# Altium schematic symbol library DIODES.SchLib: 36 symbols
Pins are listed as number, name and electrical type; pins without a type are passive.

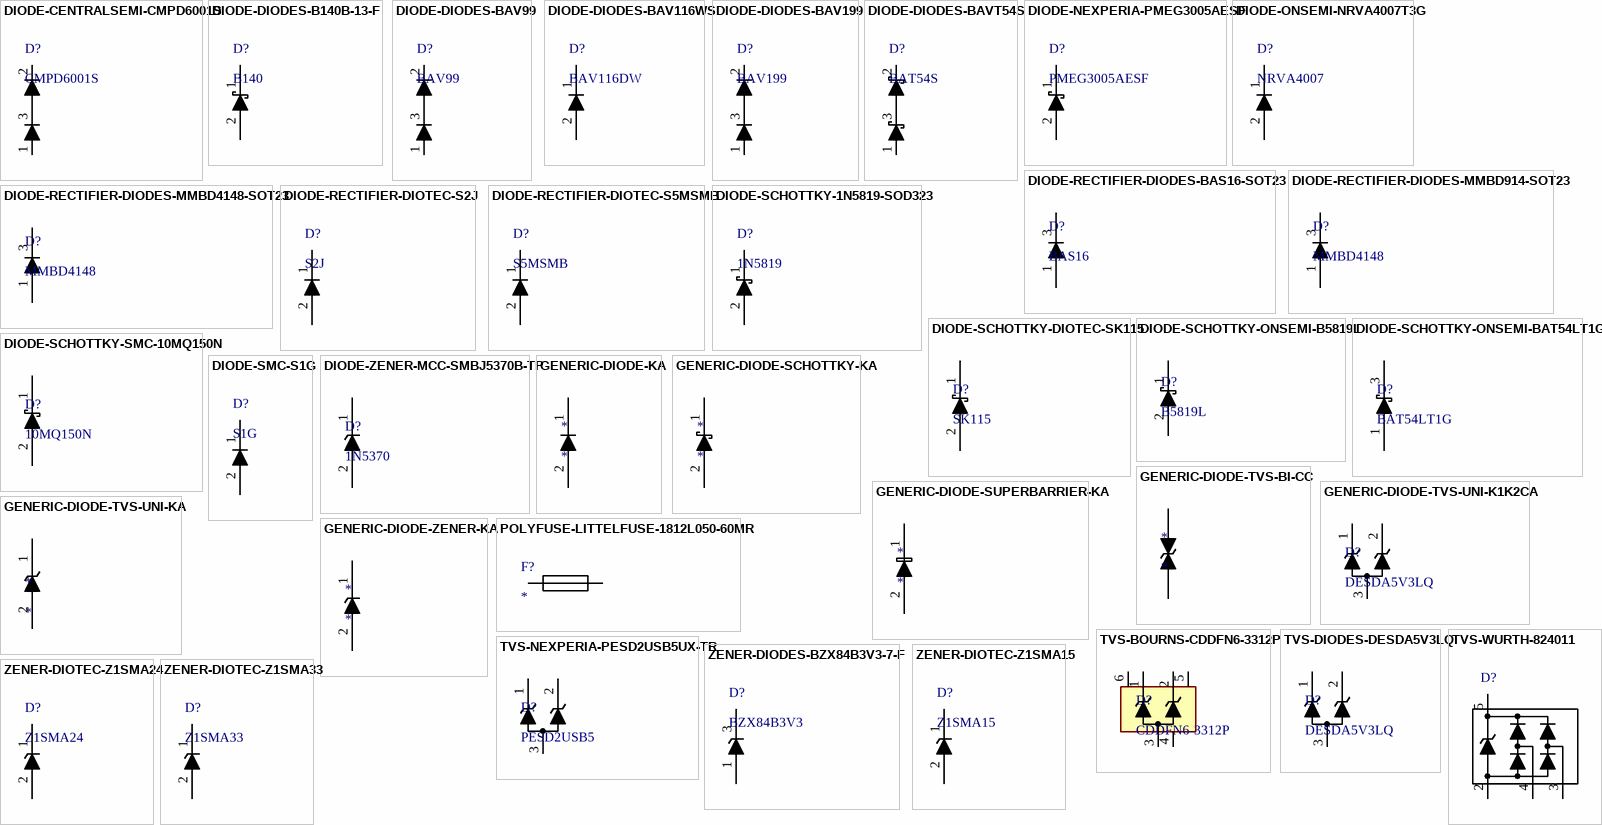
[diagram p0: symbols DIODE-CENTRALSEMI-CMPD6001S to ZENER-DIOTEC-Z1SMA33]

## DIODE-CENTRALSEMI-CMPD6001S
designator D?, comment CMPD6001S
DIODE,75V,250mA,SOT23,500pA ULTRA LOW LEAKAGE; Manufacturer 1: CENTRAL SEMICONDUCTOR; DIGIKEY: 1514-CMPD6001STRPBFREECT-ND; Manufacturer Part Number 1: CMPD6001S
footprint SOT23 (SOT23 PACKAGE, 3 PIN)
pins: 1 K, 2 A, 3 A
1 alternate drawing of the same symbol

## DIODE-DIODES-B140B-13-F
designator D?, comment B140
pins: 1 K, 2 A

## DIODE-DIODES-BAV99
designator D?, comment BAV99
DIODE,75V,215mA,SOT23,LOW LEAKAGE; LCSC: C2500
footprint SOT23 (SOT23 PACKAGE, 3 PIN)
pins: 1 K, 2 A, 3 A
1 alternate drawing of the same symbol

## DIODE-DIODES-BAV116WS
designator D?, comment BAV116DW
DIODE,75V,215mA,SOD323,LOW LEAKAGE; LCSC: C459842; Supplier 1: Arrow Electronics; Supplier Part Number 1: BAV116WS-7
footprint SOD323 (SOD323 FIGURE)
pins: 1 K, 2 A

## DIODE-DIODES-BAV199
designator D?, comment BAV199
DIODE,75V,215mA,SOT23,LOW LEAKAGE; Supplier 1: Arrow Electronics; Supplier Part Number 1: BAV116WS-7
footprint SOD323 (SOD323 FIGURE)
pins: 1 K, 2 A, 3 A

## DIODE-DIODES-BAVT54S
designator D?, comment BAT54S
DIODE,75V,215mA,SOT23,LOW LEAKAGE
footprint SOD323 (SOD323 FIGURE)
pins: 1 K, 2 A, 3 A

## DIODE-NEXPERIA-PMEG3005AESF
designator D?, comment PMEG3005AESF
LCSC: C552848
pins: 1 K, 2 A

## DIODE-ONSEMI-NRVA4007T3G
designator D?, comment NRVA4007
DIODE,RECTIFIER,1000V,1A,ONSEMI,NRVA4007,SMA; Manufacturer Part Number 1: NRVA4007T3G; DIGIKEY: NRVA4007T3GOSCT-ND; Manufacturer 1: ONSEMI
footprint DO214AC (DO214AC, SMA)
pins: 1 K, 2 A

## DIODE-RECTIFIER-DIODES-BAS16-SOT23
designator D?, comment BAS16
DIODE,RECTIFIER,75V,0.3A,BAS16,SOT23; Manufacturer 1: ONSEMI; Manufacturer Part Number 1: BAS16LT1G; DIGIKEY: BAS16LT1GOSCT-ND
footprint SOT23 (SOT23 PACKAGE, 3 PIN)
pins: 1 A, 3 K

## DIODE-RECTIFIER-DIODES-MMBD914-SOT23
designator D?, comment MMBD4148
DIODE,RECTIFIER,75V,0.3A,MMB914,SOT23; Manufacturer 1: DIODES; Manufacturer Part Number 1: MMBD914
pins: 1 A, 3 K

## DIODE-RECTIFIER-DIODES-MMBD4148-SOT23
designator D?, comment MMBD4148
DIODE,RECTIFIER,75V,0.3A,MMBD4148,SOT23; Manufacturer 1: DIODES; LCSC: C73223; Manufacturer Part Number 1: MMBD4148
footprint sot23 (SOT23 PACKAGE, 3 PIN)
pins: 1 A, 3 K

## DIODE-RECTIFIER-DIOTEC-S2J
designator D?, comment S2J
DIODE,RECTIFIER,600V,2A,S2J,DO214AA(SMB); Manufacturer 1: DIOTEC; DIGIKEY: 4878-S2JCT-ND; Manufacturer Part Number 1: S2J; MOUSER: 637-SK115
footprint DO214AC (DO214AC, SMA)
pins: 1 K, 2 A

## DIODE-RECTIFIER-DIOTEC-S5MSMB
designator D?, comment S5MSMB
DIODE,RECTIFIER,1000V,5A,S5MSMB,DO214AA(SMB); Manufacturer 1: DIOTEC; Manufacturer Part Number 1: S2J; DIGIKEY: 4878-S2JCT-ND; MOUSER: 637-SK115
footprint DO214AC (DO214AC, SMA)
pins: 1 K, 2 A

## DIODE-SCHOTTKY-1N5819-SOD323
designator D?, comment 1N5819
DIODE,SCHOTTKY,40V,0.6A,1N5819,SOD323; Manufacturer 1: GUANGDONG HOTTECH; Manufacturer Part Number 1: 1N5819WS; LCSC: C191023; MOUSER: 637-SK115
footprint SOD323
pins: 1 K, 2 A

## DIODE-SCHOTTKY-DIOTEC-SK115
designator D?, comment SK115
DIODE,SCHOTTKY,150V,1A,SK115,DO214AC(SMA); Manufacturer 1: DIOTEC; DIGIKEY: 2796-SK115TR-ND; Manufacturer Part Number 1: SK115; MOUSER: 637-SK115
footprint DO214AC (DO214AC, SMA)
pins: 1 K, 2 A

## DIODE-SCHOTTKY-ONSEMI-B5819L
designator D?, comment B5819L
DIODE,SCHOTTKY,40V,1,B5819,SOD123; Manufacturer 1: JIANGSU CHANGJING; Manufacturer Part Number 1: B5819W SL; LCSC: C8598
footprint SOD123
pins: 1 A, 2 K

## DIODE-SCHOTTKY-ONSEMI-BAT54LT1G
designator D?, comment BAT54LT1G
DIODE,SCHOTTKY,30V,0.2A,BAT54LT1G,SOT23; Supplier 1: Arrow Electronics; Supplier Part Number 1: NSVBAT54LT1G; Supplier 2: Arrow Electronics; Supplier Part Number 2: BAT54LT1G
pins: 1 A, 3 K

## DIODE-SCHOTTKY-SMC-10MQ150N
designator D?, comment 10MQ150N
DIODE,SCHOTTKY,150V,1A,10MQ150N,DO214AC(SMA); Supplier 1: Digikey; Supplier Part Number 1: 1655-10MQ150NCT-ND
footprint DO214AC (DO214AC, SMA)
pins: 1 K, 2 A

## DIODE-SMC-S1G
designator D?, comment S1G
Manufacturer 1: SMC DIODE SOLUTIONS; Manufacturer Part Number 1: S1G
pins: 1 K, 2 A

## DIODE-ZENER-MCC-SMBJ5370B-TP
designator D?, comment 1N5370
DIODE,ZENER,56V,5W,SMB,SMBJ5370B-TP,CZRB5370B-HF,ACZRC5370B-G; Manufacturer 1: MCC; Manufacturer Part Number 1: SMBJ5370B-TP
pins: 1 K, 2 A

## GENERIC-DIODE-KA
designator *
pins: 1 K, 2 A

## GENERIC-DIODE-SCHOTTKY-KA
designator *
pins: 1 K, 2 A

## GENERIC-DIODE-SUPERBARRIER-KA
designator *
pins: 1 K, 2 A

## GENERIC-DIODE-TVS-BI-CC
designator *
pins: 1 K, 2 A

## GENERIC-DIODE-TVS-UNI-K1K2CA
designator D?, comment DESDA5V3LQ
pins: 1 K, 2 A, 3 A

## GENERIC-DIODE-TVS-UNI-KA
designator *
pins: 1 K, 2 A

## GENERIC-DIODE-ZENER-KA
designator *
pins: 1 K, 2 A

## POLYFUSE-LITTELFUSE-1812L050-60MR
designator F?
POLYFUSE,0.5A,60V,LITTELFUSE,1812L050/60MR
pins: 1, 2

## TVS-BOURNS-CDDFN6-3312P
designator D?, comment CDDFN6-3312P
TVS,USB,BOURNS,CDDFN6-3312P; LCSC: C3700524; Manufacturer 1: BOURNS; Manufacturer Part Number 1: CDDFN6-3312P
footprint SON40P100X50-6L (SON, 6-Leads, Body 1.20x1.00mm, Pitch 0.40mm, IPC High Density)
pins: 1 K, 2 A, 3 A, 4 A, 5 A, 6 A

## TVS-DIODES-DESDA5V3LQ
designator D?, comment DESDA5V3LQ
pins: 1 K, 2 A, 3 A

## TVS-NEXPERIA-PESD2USB5UX-TR
designator D?, comment PESD2USB5
DIODE,TVS,DUAL,NIDIRETIONAL,USB,PESD2USB5UX-TR,SOT23; Manufacturer 1: NEXPERIA; DIGIKEY: 1727-PESD2USB5UX-CT-ND; LCSC: C3709087; Manufacturer Part Number 1: PESD2USB5UX-TR
footprint SOT23 (SOT23 PACKAGE, 3 PIN)
pins: 1 K, 2 A, 3 A

## TVS-WURTH-824011
designator D?  (value not drawn)
DIODE,TVS,DUAL,UNIDIRECTIONAL,USB; Manufacturer 1: WURTH; Manufacturer Part Number 1: 824011; Supplier 1: Digikey; Supplier Part Number 1: 732-4465-1-ND; LCSC: C22358704; DIGIKEY: 732-4465-1-ND; MOUSER: 710-824011
footprint SOT23-5 (SOT23 PACKAGE, 5 PIN (SOT25))
pins: 2 A, 3 A, 4 A, 5 A

## ZENER-DIODES-BZX84B3V3-7-F
designator D?, comment BZX84B3V3
DIODE,ZENER,3V3,0.2A,BZX84B3V3,SOT23; Manufacturer 1: DIODES; Manufacturer Part Number 1: BZX84B3V3-7-F
footprint SOT23 (SOT23 PACKAGE, 3 PIN)
pins: 1 A, 3 K

## ZENER-DIOTEC-Z1SMA15
designator D?, comment Z1SMA15
DIODE,ZENER,15V,1W,Z1SMA24,DO214AC(SMA); Manufacturer 1: DIOTEC; Manufacturer Part Number 1: Z1SMA24
footprint DO214AC (DO214AC, SMA)
pins: 1 K, 2 A

## ZENER-DIOTEC-Z1SMA24
designator D?, comment Z1SMA24
DIODE,ZENER,24V,1W,Z1SMA24,DO214AC(SMA); Manufacturer 1: DIOTEC; Manufacturer Part Number 1: Z1SMA24
footprint DO214AC (DO214AC, SMA)
pins: 1 K, 2 A

## ZENER-DIOTEC-Z1SMA33
designator D?, comment Z1SMA33
DIODE,ZENER,33V,1W,Z1SMA33,DO214AC(SMA); Manufacturer 1: DIOTEC; Manufacturer Part Number 1: Z1SMA24
footprint DO214AC (DO214AC, SMA)
pins: 1 K, 2 A